# Altium schematic symbol library EL-sense_Prog_Temp_Switch.SchLib: 1 symbol
Pins are listed as number, name and electrical type; pins without a type are passive.

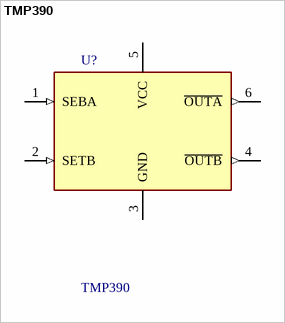
[diagram p0: symbol TMP390]

## TMP390
designator U?
Thermostat Programmable Active Low Open Drain / Voltage - Supply 1.62 V ~ 5.5 V / Current - Supply 500nA / Package / Case SOT-563, SOT-666; Manufacturer: Texas Instruments; Case: SOT-563; Supplier 1: Digi-Key; Supplier Part Number 1: 296-53505-1-ND
footprint SOT-563
pins: 1 SEBA (in) "Channel A temperature set point", 2 SETB (in) "Channel B temperature and Hysteresis set point", 3 GND (power) "Device ground", 4 ~{OUTB} (out) "Channel B logic open-drain active low output", 5 VCC (power) "Power supply voltage (1.62 V – 5.5 V)", 6 ~{OUTA} (out) "Channel A logic open-drain active low output"